# Altium footprint library CC0402JRNP09BN150.PcbLib: 3 footprints
Each footprint in its own frame and in the unit in brackets; x right, y up, seen from the top. Pads: shape width x height; smd on the part's side, far side on the other; paste and mask are expansions set on the pad; w line width, h text height; cw(c..) or ccw(c..) is an arc to the next point about the centre after c.
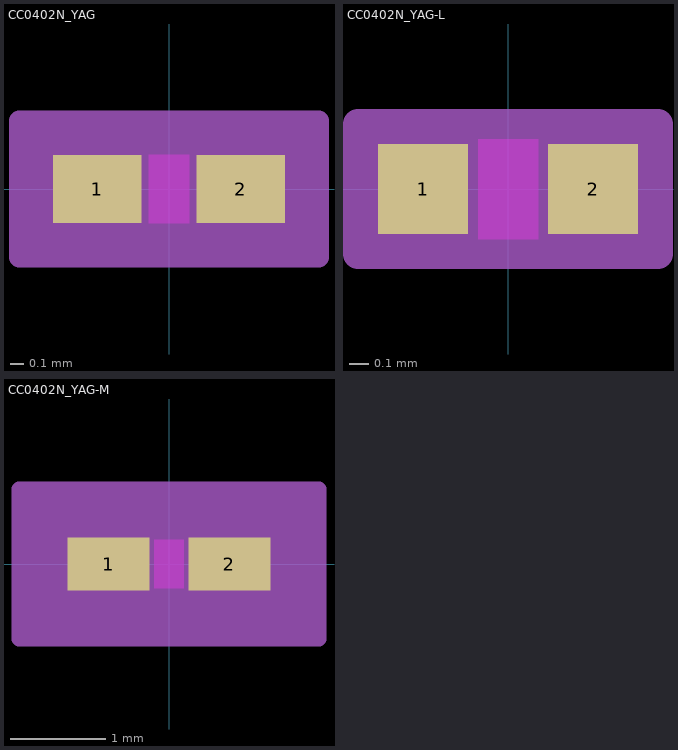
[diagram p0: the footprints below, top view; thin cyan lines are the x and y axes]

## CC0402N_YAG [mil]
pads (2):
  rect 26x20 smd paste+0 mask+0: 1(-21,0) 2(21,0)
Top Layer keep-out:
  region: -6,-8 -6,8 6,8 6,-8
Keep-Out Layer:
  region: -6,-10 -6,10 6,10 6,-10
Mechanical 13:
  lines w1: -20,-10 -20,10 ; -20,-10 -8,-10 -8,10 -20,10 ; -20,-10 20,-10 ; -20,-10 -20,10 ; -20,10 20,10 ; 20,-10 8,-10 8,10 20,10 ; 20,-10 20,10 ; 20,-10 20,10
Mechanical 15:
  region: 44,-20 -44,-20 -44,20 44,20
  lines w6: -44,-20 -44,20 44,20 44,-20 -44,-20
3D body "CC0402N_YAG.step": height 27.99, standoff 0, extent -20,-10 20,10

## CC0402N_YAG-L [mil]
pads (2):
  rect 18x18 smd paste+0 mask+0: 1(-17,0) 2(17,0)
Top Layer keep-out:
  region: -6,-8 -6,8 6,8 6,-8
Keep-Out Layer:
  region: -6,-10 -6,10 6,10 6,-10
Mechanical 13:
  lines w1: -20,-10 -20,10 ; -20,-10 -8,-10 -8,10 -20,10 ; -20,-10 20,-10 ; -20,-10 -20,10 ; -20,10 20,10 ; 20,-10 8,-10 8,10 20,10 ; 20,-10 20,10 ; 20,-10 20,10
Mechanical 15:
  region: 30,-13 -30,-13 -30,13 30,13
  lines w6: -30,-13 -30,13 30,13 30,-13 -30,-13
3D body "CC0402N_YAG.step": height 27.99, standoff 0, extent -20,-10 20,10

## CC0402N_YAG-M [mil]
pads (2):
  rect 34x22 smd paste+0 mask+0: 1(-25,0) 2(25,0)
Top Layer keep-out:
  region: -6,-8 -6,8 6,8 6,-8
Keep-Out Layer:
  region: -6,-10 -6,10 6,10 6,-10
Mechanical 13:
  lines w1: -20,-10 -20,10 ; -20,-10 -8,-10 -8,10 -20,10 ; -20,-10 20,-10 ; -20,-10 -20,10 ; -20,10 20,10 ; 20,-10 8,-10 8,10 20,10 ; 20,-10 20,10 ; 20,-10 20,10
Mechanical 15:
  region: 62,-31 -62,-31 -62,31 62,31
  lines w6: -62,-31 -62,31 62,31 62,-31 -62,-31
3D body "CC0402N_YAG.step": height 27.99, standoff 0, extent -20,-10 20,10